# EAGLE library part OPTO_KSZ8051RNL_TR (library !GPLIB_ACTIVE)
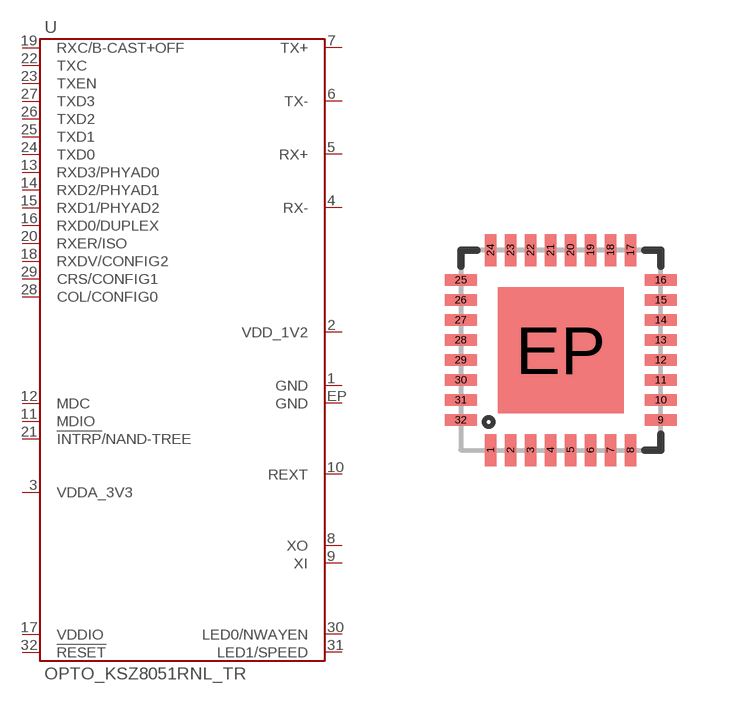
[diagram p116: symbol with the pads of QFN-32; footprint QFN-32]

Designator prefix U

## OPTO_KSZ8051RNL_TR  [QFN-32]
1  GND
2  VDD_1V2
3  VDDA_3V3
4  RX-
5  RX+
6  TX-
7  TX+
8  XO
9  XI
10  REXT
11  MDIO
12  MDC
13  RXD3/PHYAD0
14  RXD2/PHYAD1
15  RXD1/PHYAD2
16  RXD0/DUPLEX
17  VDDIO
18  RXDV/CONFIG2
19  RXC/B-CAST+OFF
20  RXER/ISO
21  !INTRP!/NAND-TREE
22  TXC
23  TXEN
24  TXD0
25  TXD1
26  TXD2
27  TXD3
28  COL/CONFIG0
29  CRS/CONFIG1
30  LED0/NWAYEN
31  LED1/SPEED
32  !RESET
EP  GND

## Footprint QFN-32 (pad centres in mm)
smd 0.285 x 0.8: 1 -1.75,-2.5; 2 -1.25,-2.5; 3 -0.75,-2.5; 4 -0.25,-2.5; 5 0.25,-2.5; 6 0.75,-2.5; 7 1.25,-2.5; 8 1.75,-2.5; 17 1.75,2.5; 18 1.25,2.5; 19 0.75,2.5; 20 0.25,2.5; 21 -0.25,2.5; 22 -0.75,2.5; 23 -1.25,2.5; 24 -1.75,2.5
smd 0.8 x 0.285: 9 2.5,-1.75; 10 2.5,-1.25; 11 2.5,-0.75; 12 2.5,-0.25; 13 2.5,0.25; 14 2.5,0.75; 15 2.5,1.25; 16 2.5,1.75; 25 -2.5,1.75; 26 -2.5,1.25; 27 -2.5,0.75; 28 -2.5,0.25; 29 -2.5,-0.25; 30 -2.5,-0.75; 31 -2.5,-1.25; 32 -2.5,-1.75
smd 3.15 x 3.15: EP 0,0